# Altium footprint library TSOT-23-8.PcbLib: 1 footprints
Each footprint in its own frame and in the unit in brackets; x right, y up, seen from the top. Pads: shape width x height; smd on the part's side, far side on the other; paste and mask are expansions set on the pad; w line width, h text height; cw(c..) or ccw(c..) is an arc to the next point about the centre after c.
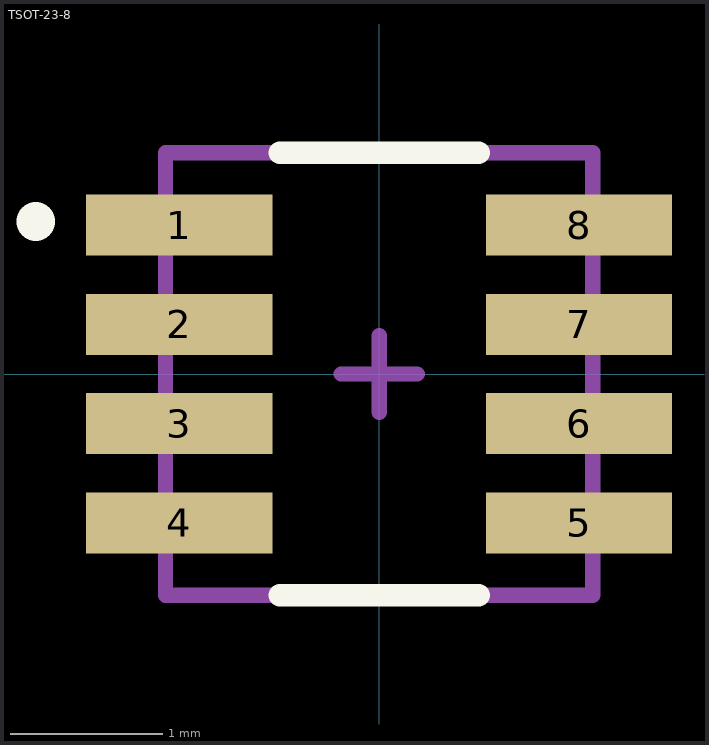
[diagram p0: the footprint, top view; thin cyan lines are the x and y axes]

## TSOT-23-8 [mm]
pads (8):
  rect 1.22x0.4 smd mask+0.051: 1(-1.31,0.975) 2(-1.31,0.325) 3(-1.31,-0.325) 4(-1.31,-0.975) 5(1.31,-0.975) 6(1.31,-0.325) 7(1.31,0.325) 8(1.31,0.975)
Top Overlay:
  circle w0.254: c-2.25,1 r0
  lines w0.15: -0.65,-1.45 0.65,-1.45 ; -0.65,1.45 0.65,1.45
Mechanical 13:
  lines w0.1: -1.4,-1.45 -1.4,1.45 1.4,1.45 1.4,-1.45 -1.4,-1.45
Mechanical 15:
  lines w0.1: -0.25,0 0.25,0 ; 0,-0.25 0,0.25
3D body "TSOT-23-8.STEP": height 1.01, standoff 0.01, extent -1.4,-1.45 1.4,1.45